# Altium footprint library K50-29.PcbLib: 1 footprints
Each footprint in its own frame and in the unit in brackets; x right, y up, seen from the top. Pads: shape width x height; smd on the part's side, far side on the other; paste and mask are expansions set on the pad; w line width, h text height; cw(c..) or ccw(c..) is an arc to the next point about the centre after c.
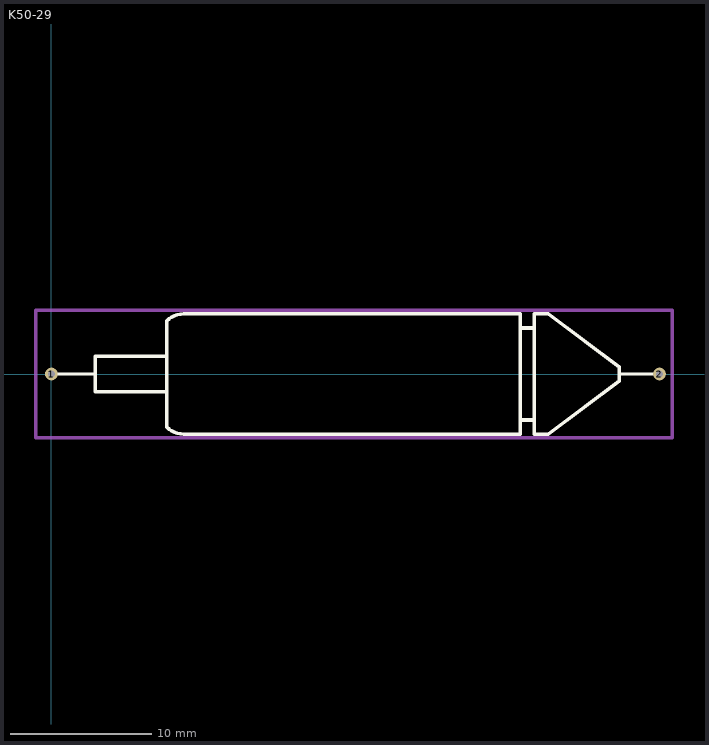
[diagram p0: the footprint, top view; thin cyan lines are the x and y axes]

## K50-29 [mm]
pads (2):
  round 0.9 hole 0.5: 1(0,0) 2(43,0)
Top Overlay:
  lines w0.2: 0.25,0 3,0 ; 40.275,0 43,0
  lines w0.254: 8.1,-1.25 3.1,-1.25 3.1,1.25 8.1,1.25 ; 33.15,-3.25 34.15,-3.25 ; 33.15,3.25 34.15,3.25 ; 8.15,-3.75 ccw(c9.357,-2.543) 9.357,-4.25 33.15,-4.25 33.15,4.25 9.357,4.25 ccw(c9.357,2.543) 8.15,3.75 8.15,-3.75 ; 34.15,-4.25 35.15,-4.25 40.15,-0.5 40.15,0.5 35.15,4.25 34.15,4.25 34.15,-4.25
Mechanical 1:
  lines w0.254: -1.1,-4.5 -1.1,4.5 43.9,4.5 43.9,-4.5 -1.1,-4.5